# EAGLE library part RELEMZPA92 (library #PaJa_30_scr)
RELE - 2x prepinaci, 5V, 12V, 24V max. spinany proud = 5A stejna roztec noh, rozmery (mimo vysku) a zapojeni jako rele RELE4061, RELEF4052 a RELEF4152
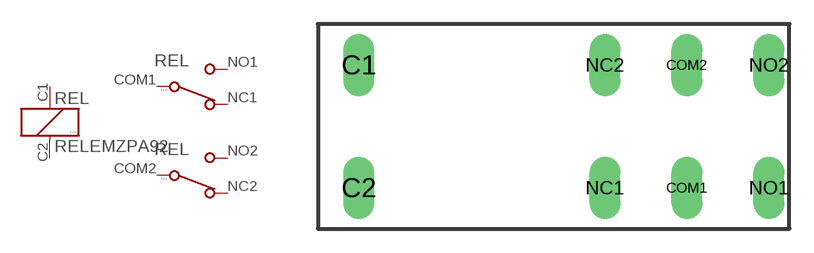
[diagram p54: symbol with the pads of RELEMZPA92; footprint RELEMZPA92]

Designator prefix REL; gates CIVKA=RELE PREP1=RELE_PRE PREP2=RELE_PRE

## RELEMZPA92  [RELEMZPA92]
C1  CIVKA:C1  pas
C2  CIVKA:C2  pas
COM1  PREP1:COM  pas
COM2  PREP2:COM  pas
NC1  PREP1:NC  pas
NC2  PREP2:NC  pas
NO1  PREP1:NO  pas
NO2  PREP2:NO  pas

## Footprint RELEMZPA92 (pad centres in mm)
RELAY 2 x switch, Finder
drill 1.27 pad 1.93 long: C1 -12.065,3.81; C2 -12.065,-3.81; COM1 8.255,-3.81; COM2 8.255,3.81; NC1 3.175,-3.81; NC2 3.175,3.81; NO1 13.335,-3.81; NO2 13.335,3.81